# Altium footprint library Diodo.PcbLib: 2 footprints
Each footprint in its own frame and in the unit in brackets; x right, y up, seen from the top. Pads: shape width x height; smd on the part's side, far side on the other; paste and mask are expansions set on the pad; w line width, h text height; cw(c..) or ccw(c..) is an arc to the next point about the centre after c.
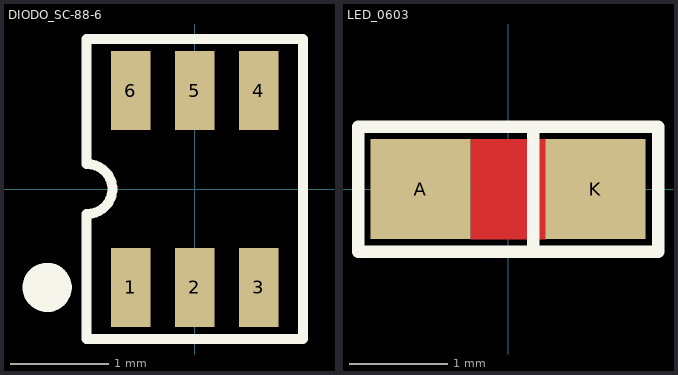
[diagram p0: the footprints below, top view; thin cyan lines are the x and y axes]

## DIODO_SC-88-6 [mm]
pads (6):
  rect 0.4x0.8 smd: 1(-0.65,-1) 2(0,-1) 3(0.65,-1) 4(0.65,1) 5(0,1) 6(-0.65,1)
Top Overlay:
  circle w0.25: c-1.5,-1 r0.125
  lines w0.1: -1.1,0.254 -1.1,1.524
  lines w0.102: -1.1,-0.254 -1.1,-1.524 1.1,-1.524 1.1,1.524 -1.1,1.524 ; -1.092,-0.254 ccw(c-1.092,0) -1.092,0.254
3D body "User Library-SC88-6.step": height 1.1, standoff 0, extent -1,-1.1 1,1.1

## LED_0603 [mil]
pads (2):
  rect 40x40 smd: A(-35,0) K(35,0)
Top Layer:
  pour cut-out: -15,20 -15,-20 15,-20 15,20
Top Overlay:
  lines w5: 10,-25 10,25 ; -60,-25 60,-25 60,25 -60,25 -60,-25
3D body "led-0603-verde.STEP": height 35.43, standoff 0, extent -33.47,-17.71 33.46,17.72